# Altium footprint library teslaeggspecificparts.PcbLib: 25 footprints (part 1 of 2)
Each footprint in its own frame and in the unit in brackets; x right, y up, seen from the top. Pads: shape width x height; smd on the part's side, far side on the other; paste and mask are expansions set on the pad; w line width, h text height; cw(c..) or ccw(c..) is an arc to the next point about the centre after c.
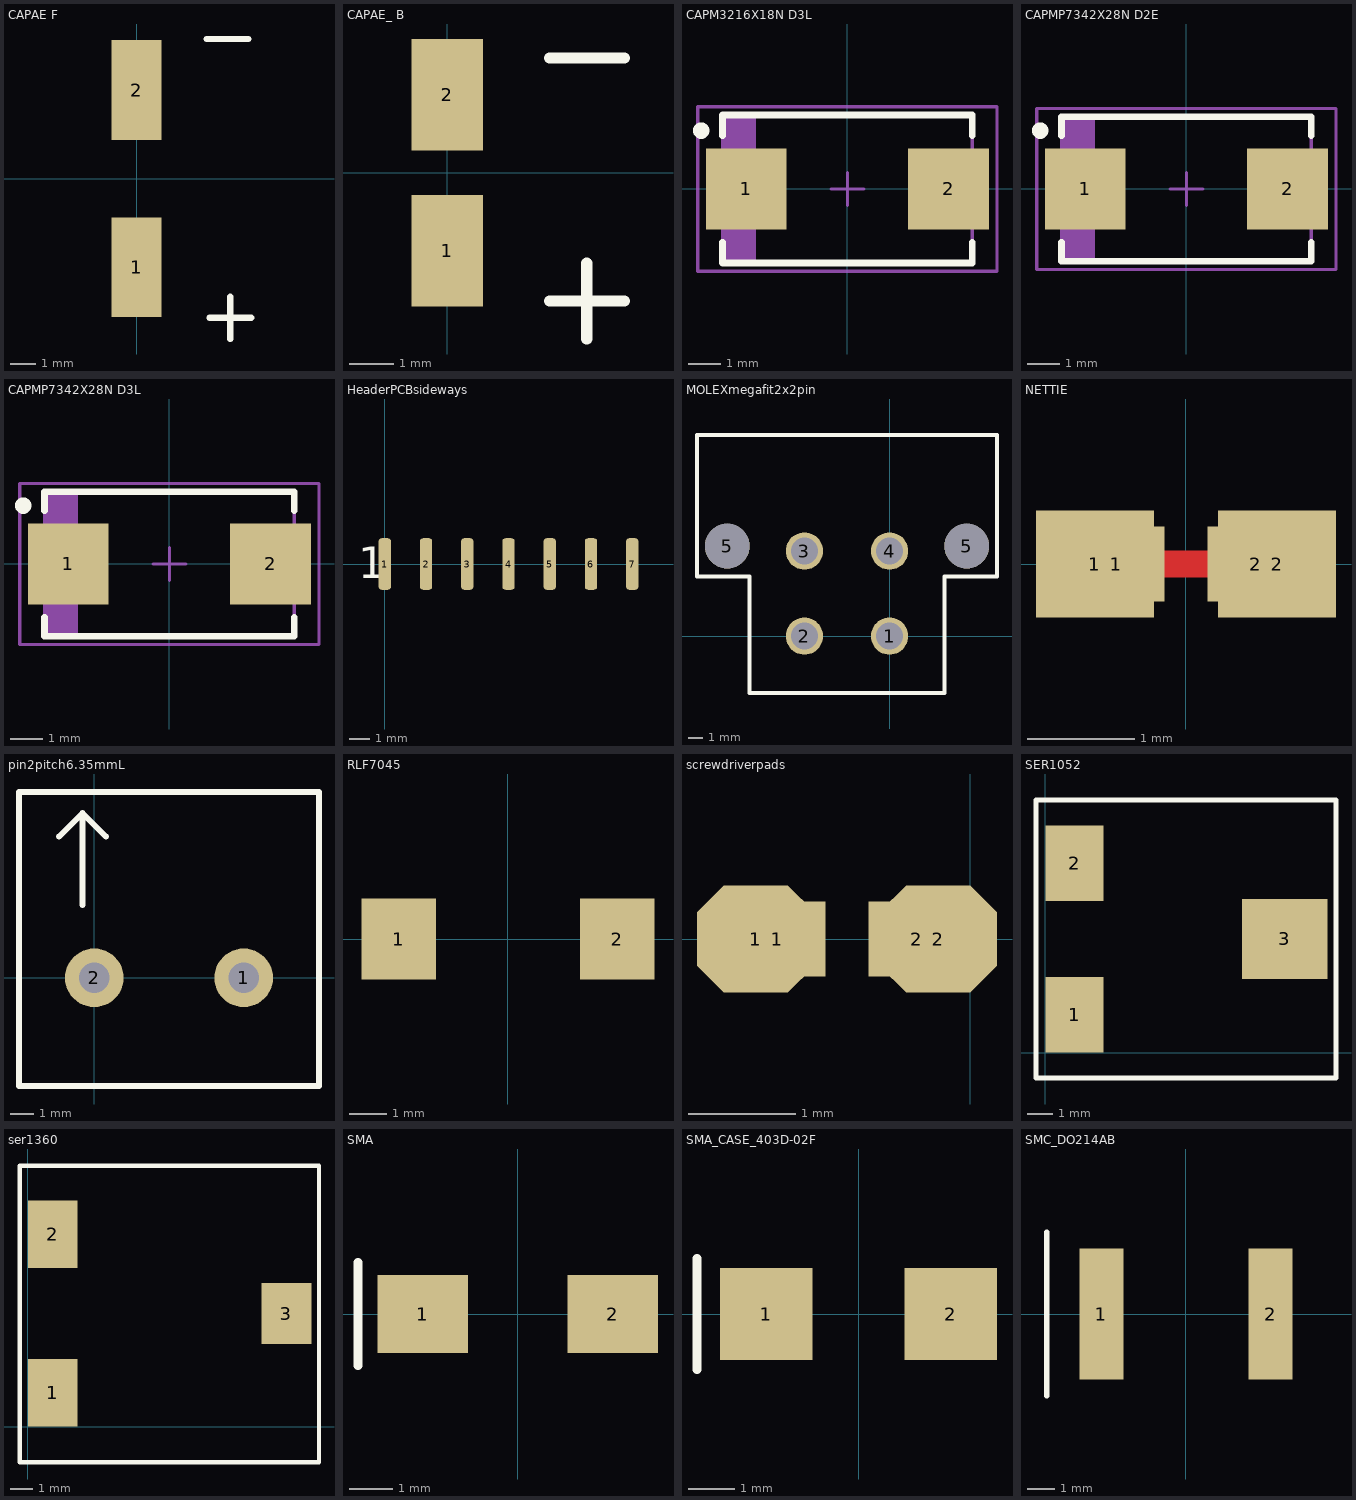
[diagram p0: the footprints below, top view; thin cyan lines are the x and y axes]

## CAPAE F [mm] "panasonic surface mount electrolytic size F"
pads (2):
  rect 2x4 smd: 1(0,-3.55) 2(0,3.55)
Top Overlay:
  lines w0.254: 2.8,5.6 4.475,5.6 ; 2.925,-5.575 4.6,-5.575 ; 3.75,-6.425 3.75,-4.725
3D body: height 11, standoff 0, extent -4.216,-4.242 4.25,4.242

## CAPAE_ B [mm] "panasonic surface mount electrolytic size B"
pads (2):
  rect 1.6x2.5 smd: 1(0,-1.75) 2(0,1.75)
Top Overlay:
  lines w0.254: 2.3,-2.875 3.975,-2.875 ; 2.3,2.575 3.975,2.575 ; 3.125,-3.725 3.125,-2.025
3D body: height 5, standoff 0, extent -1.984,-1.996 2,1.996

## CAPM3216X18N D3L [mm] "panasonic polyester tantalum cap size D3L"
height 2.8
pads (2):
  rect 2.45x2.45 smd: 1(-3.075,0) 2(3.075,0)
Top Overlay:
  circle w0.25: c-4.45,1.775 r0.125
  lines w0.2: -3.8,-1.625 -3.8,-2.25 3.8,-2.25 3.8,-1.625 ; -3.8,1.625 -3.8,2.25 3.8,2.25 3.8,1.625
Mechanical 13:
  rectangle: -3.8,-2.25 -2.778,2.25
  lines w0.1: -3.8,-2.25 -3.8,2.25 3.8,2.25 3.8,-2.25 -3.8,-2.25
Mechanical 15:
  lines w0.1: -0.5,0 0.5,0 ; 0,-0.5 0,0.5 ; -4.55,-2.5 -4.55,2.5 4.55,2.5 4.55,-2.5 -4.55,-2.5
3D body: height 2.8, standoff 0, extent -3.8,-2.25 3.8,2.25

## CAPMP7342X28N D2E [mm] "Molded Capacitor, 2-Leads, Body 7,3x4,2mm, IPC Medium Density"
height 1.8
pads (2):
  rect 2.45x2.45 smd: 1(-3.075,0) 2(3.075,0)
Top Overlay:
  circle w0.25: c-4.45,1.775 r0.125
  lines w0.2: -3.8,-1.625 -3.8,-2.2 3.8,-2.2 3.8,-1.625 ; -3.8,1.625 -3.8,2.2 3.8,2.2 3.8,1.625
Mechanical 13:
  rectangle: -3.8,-2.15 -2.778,2.15
  lines w0.1: -3.8,-2.15 3.8,-2.15 3.8,2.15 -3.8,2.15 -3.8,-2.15
Mechanical 15:
  lines w0.1: -0.5,0 0.5,0 ; 0,-0.5 0,0.5 ; -4.55,-2.45 4.55,-2.45 4.55,2.45 -4.55,2.45 -4.55,-2.45
3D body: height 2.8, standoff 0, extent -3.8,-2.15 3.8,2.15

## CAPMP7342X28N D3L [mm] "Molded Capacitor, 2-Leads, Body 7,3x4,2mm, IPC Medium Density"
height 2.8
pads (2):
  rect 2.45x2.45 smd: 1(-3.075,0) 2(3.075,0)
Top Overlay:
  circle w0.25: c-4.45,1.775 r0.125
  lines w0.2: -3.8,-1.625 -3.8,-2.2 3.8,-2.2 3.8,-1.625 ; -3.8,1.625 -3.8,2.2 3.8,2.2 3.8,1.625
Mechanical 13:
  rectangle: -3.8,-2.15 -2.778,2.15
  lines w0.1: -3.8,-2.15 -3.8,2.15 3.8,2.15 3.8,-2.15 -3.8,-2.15
Mechanical 15:
  lines w0.1: -0.5,0 0.5,0 ; 0,-0.5 0,0.5 ; -4.55,-2.45 -4.55,2.45 4.55,2.45 4.55,-2.45 -4.55,-2.45
3D body: height 2.8, standoff 0, extent -3.8,-2.15 3.8,2.15

## HeaderPCBsideways [mm] "solder a straight header sideways onto thes pads at the edge of the pcb"
pads (7):
  rrect50% 0.6x2.5 smd: 1(0,0) 2(2,0) 3(4,0) 4(6,0) 5(8,0) 6(10,0) 7(12,0)
Top Overlay:
  text "1" at -1.3,-0.7 h1.52

## MOLEXmegafit2x2pin [mm]
pads (6):
  round 2.5 hole 1.8: 1(0,0) 2(-5.7,0) 3(-5.7,5.7) 4(0,5.7)
  round 3 hole 3 unplated: 5(-10.87,6.03) 5(5.17,6.03)
Top Overlay:
  lines w0.254: -12.9,4 -9.39,4 -9.39,-3.81 3.69,-3.81 3.69,4 7.2,4 7.2,13.47 -12.9,13.47 -12.9,4
3D body: height 16.93, standoff -1.65, extent -12.346,-3.2 6.746,10.834

## NETTIE [mm] "use to tie nets together"
pads (4):
  rect 1.1x1 smd: 1(-0.85,0) 2(0.85,0)
  rect 0.9x0.7 smd: 1(-0.65,0) 2(0.65,0)
Top Layer:
  lines w0.254: -0.65,0 0.65,0

## pin2pitch6.35mmL [mm] "6.35mm pitch screw terminal hi current"
pads (2):
  round 2.5 hole 1.3: 1(6.35,0) 2(0,0)
Top Overlay:
  lines w0.254: -1.5,6 -0.5,7 ; -0.5,3.1 -0.5,7 ; 0.5,6 -0.5,7 ; -0.5,7 -0.5,7 ; -3.2,-4.6 9.55,-4.6 9.55,7.9 -3.2,7.9 -3.2,-4.6
3D body: height 21.5, standoff -5, extent -3.17,-4.6 10.1,7.9

## RLF7045 [mm] "tdk inductor"
pads (2):
  rect 2x2.2 smd: 1(-2.95,0) 2(2.95,0)
3D body: height 4.8, standoff 0, extent -3.8,-3.5 3.8,3.5

## screwdriverpads [mm] "pads that allow a screwdriver to pull a pin low/high"
pads (4):
  oct 1.1x1 smd: 1(-2,0) 2(-0.3,0)
  rect 0.9x0.7 smd: 1(-1.8,0) 2(-0.5,0)

## SER1052 [mm] "coilcraft smd inductor series 1052"
pads (3):
  rect 2.3x3 smd: 1(1.15,1.5) 2(1.15,7.5)
  rect 3.4x3.18 smd: 3(9.47,4.5)
Top Overlay:
  lines w0.2: -0.375,-1 -0.375,10 11.5,10 11.5,-1 -0.375,-1
3D body: height 5.15, standoff -0.05, extent -0.05,-0.7 11.2,9.7

## ser1360 [mm] "coilcraft 3pins inductor"
height 6
pads (3):
  rect 2.26x3.07 smd: 1(1.13,1.535) 2(1.13,8.745)
  rect 2.26x2.77 smd: 3(11.77,5.14)
Top Overlay:
  lines w0.2: -0.375,-1.625 13.25,-1.625 13.25,11.875 -0.375,11.875 -0.375,-1.625
3D body: height 5.75, standoff -0.05, extent -0.05,-1.325 12.95,11.575

## SMA [mm] "sma diode"
height 2.3
pads (2):
  rect 2.1x1.8 smd: 1(-2.2,0) 2(2.2,0)
Top Overlay:
  lines w0.2: -3.7,-1.2 -3.7,1.2
3D body: height 2.3, standoff -0.2, extent -2.25,-1.4 2.25,1.4

## SMA_CASE_403D-02F [mm] "diode sma"
pads (2):
  rect 2x2 smd: 1(-2,0) 2(2,0)
Top Overlay:
  lines w0.2: -3.5,-1.2 -3.5,1.2
3D body: height 2.2, standoff -0.4, extent -2.3,-1.475 2.3,1.475

## SMC_DO214AB [mm] "diode package comchip SMC"
pads (2):
  rect 1.6x4.8 smd: 1(-3.1,0) 2(3.1,0)
Top Overlay:
  lines w0.2: -5.1,-3 -5.1,3
3D body: height 2, standoff 0, extent -3.55,-3.125 3.55,3.125